# Altium footprint library HC-49SM.PcbLib: 1 footprints
Each footprint in its own frame and in the unit in brackets; x right, y up, seen from the top. Pads: shape width x height; smd on the part's side, far side on the other; paste and mask are expansions set on the pad; w line width, h text height; cw(c..) or ccw(c..) is an arc to the next point about the centre after c.
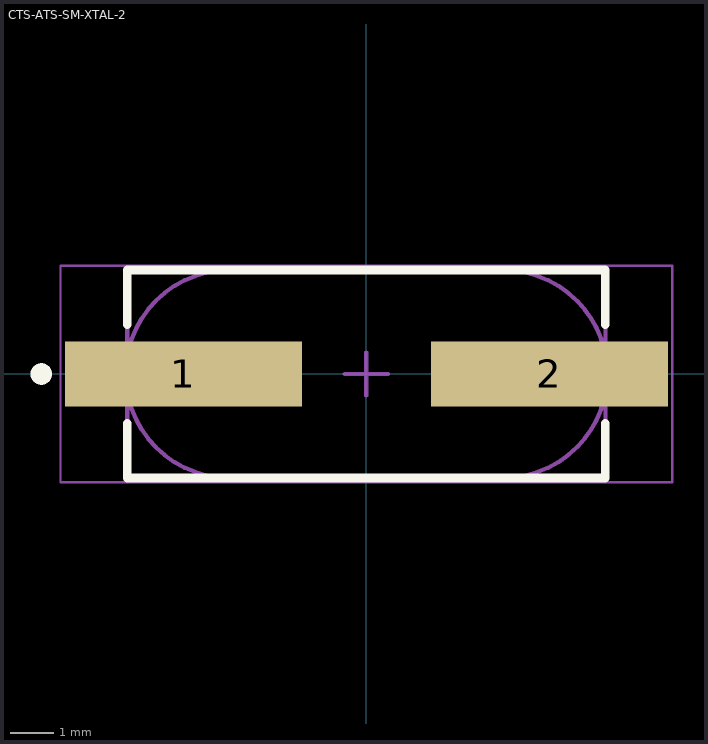
[diagram p0: the footprint, top view; thin cyan lines are the x and y axes]

## CTS-ATS-SM-XTAL-2 [mm] "SMD, 2-Leads, Body 11.1x4.83mm, Pitch 8.5mm"
height 4.3
pads (2):
  rect 5.5x1.5 smd: 1(-4.25,0) 2(4.25,0)
Top Overlay:
  circle w0.25: c-7.55,0 r0.125
  lines w0.2: -5.55,-1.15 -5.55,-2.415 5.55,-2.415 5.55,-1.15 ; -5.55,1.15 -5.55,2.415 5.55,2.415 5.55,1.15
Mechanical 13:
  lines w0.1: -5.55,-2.415 5.55,-2.415 5.55,2.415 -5.55,2.415 -5.55,-2.415 ; -3.175,-2.415 cw(c-3.175,0) -3.175,2.415 3.175,2.415 cw(c3.175,0) 3.175,-2.415 -3.175,-2.415
Mechanical 15:
  lines w0.05: -7.1,-2.515 7.1,-2.515 7.1,2.515 -7.1,2.515 -7.1,-2.515
  lines w0.1: -0.5,0 0.5,0 ; 0,-0.5 0,0.5
3D body: height 4.3, standoff 0.7, extent -5.591,-2.416 5.591,2.416
3D body: height 0.7, standoff 0, extent -5.55,-2.415 5.55,2.415